# EAGLE library part BSS138PS (library NXP_By_element14_Batch_1)
Dual N-channel Trench MOSFET
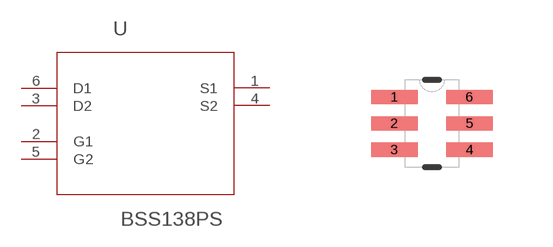
[diagram p234: symbol with the pads of SOT65P210X110-6N; footprint SOT65P210X110-6N]

Designator prefix U

## BSS138PS (MPN: BSS138PS; OC_FARNELL: 1972664; OC_NEWARK: 58T9002; P1I: o; PACKAGE: SOT-363-6; SUPPLIER: NXP)  [SOT65P210X110-6N]
1  S1  out
2  G1  in
3  D2  in
4  S2  out
5  G2  in
6  D1  in

## Footprint SOT65P210X110-6N (pad centres in mm)
smd 1.168 x 0.356: 1 -0.94,0.66; 2 -0.94,0; 3 -0.94,-0.66; 4 0.94,-0.66; 5 0.94,0; 6 0.94,0.66